# EAGLE library part BME280 (library myLib)
DIGITAL HUMIDITY, PRESSURE AND TEMPERATURE SENSOR * Digital interface I²C (up to 3.4 MHz) and SPI (3 and 4 wire, up to 10 MHz)* Supply voltage VDD main supply voltage range: 1.71 V to 3.6 V*VDDIO interface voltage range: 1.2 V to 3.6 V Operating range -40…+85 °C, 0…100 % rel. humidity, 300…1100 hPa The library has been designed by Richard Magdycz <https://www.facebook.com/groups/eaglecadsoftUK>
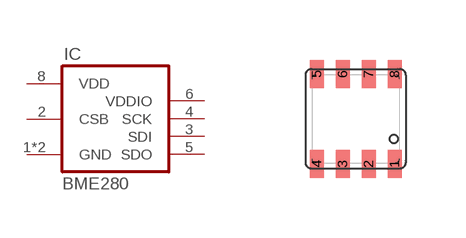
[diagram p9: symbol with the pads of BME280; footprint BME280]

Designator prefix IC

## BME280  [BME280]
1  GND  pwr
2  CSB  in
3  SDI
4  SCK
5  SDO  in
6  VDDIO  pwr
7  GND  pwr
8  VDD  pwr

## Footprint BME280 (pad centres in mm)
2.5 mm x 2.5 mm x 0.93 mm metal lid LGA
smd 0.35 x 0.7: 1 0.975,-1.125; 2 0.325,-1.125; 3 -0.325,-1.125; 4 -0.975,-1.125; 5 -0.975,1.125; 6 -0.325,1.125; 7 0.325,1.125; 8 0.975,1.125